# Altium schematic symbol library R-CRCW0603120RJNEA.Schlib: 1 symbol
Pins are listed as number, name and electrical type; pins without a type are passive.

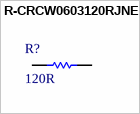
[diagram p0: symbol R-CRCW0603120RJNEA]

## R-CRCW0603120RJNEA
designator R?, comment 120R
Thick Film Resistors - SMD 1/10watt 120ohms 5%
pins: 1, 2